# Altium integrated library Analog Devices Data Converters Digital-to-Analog Converters.IntLib: 2231 symbols (part 59 of 181)
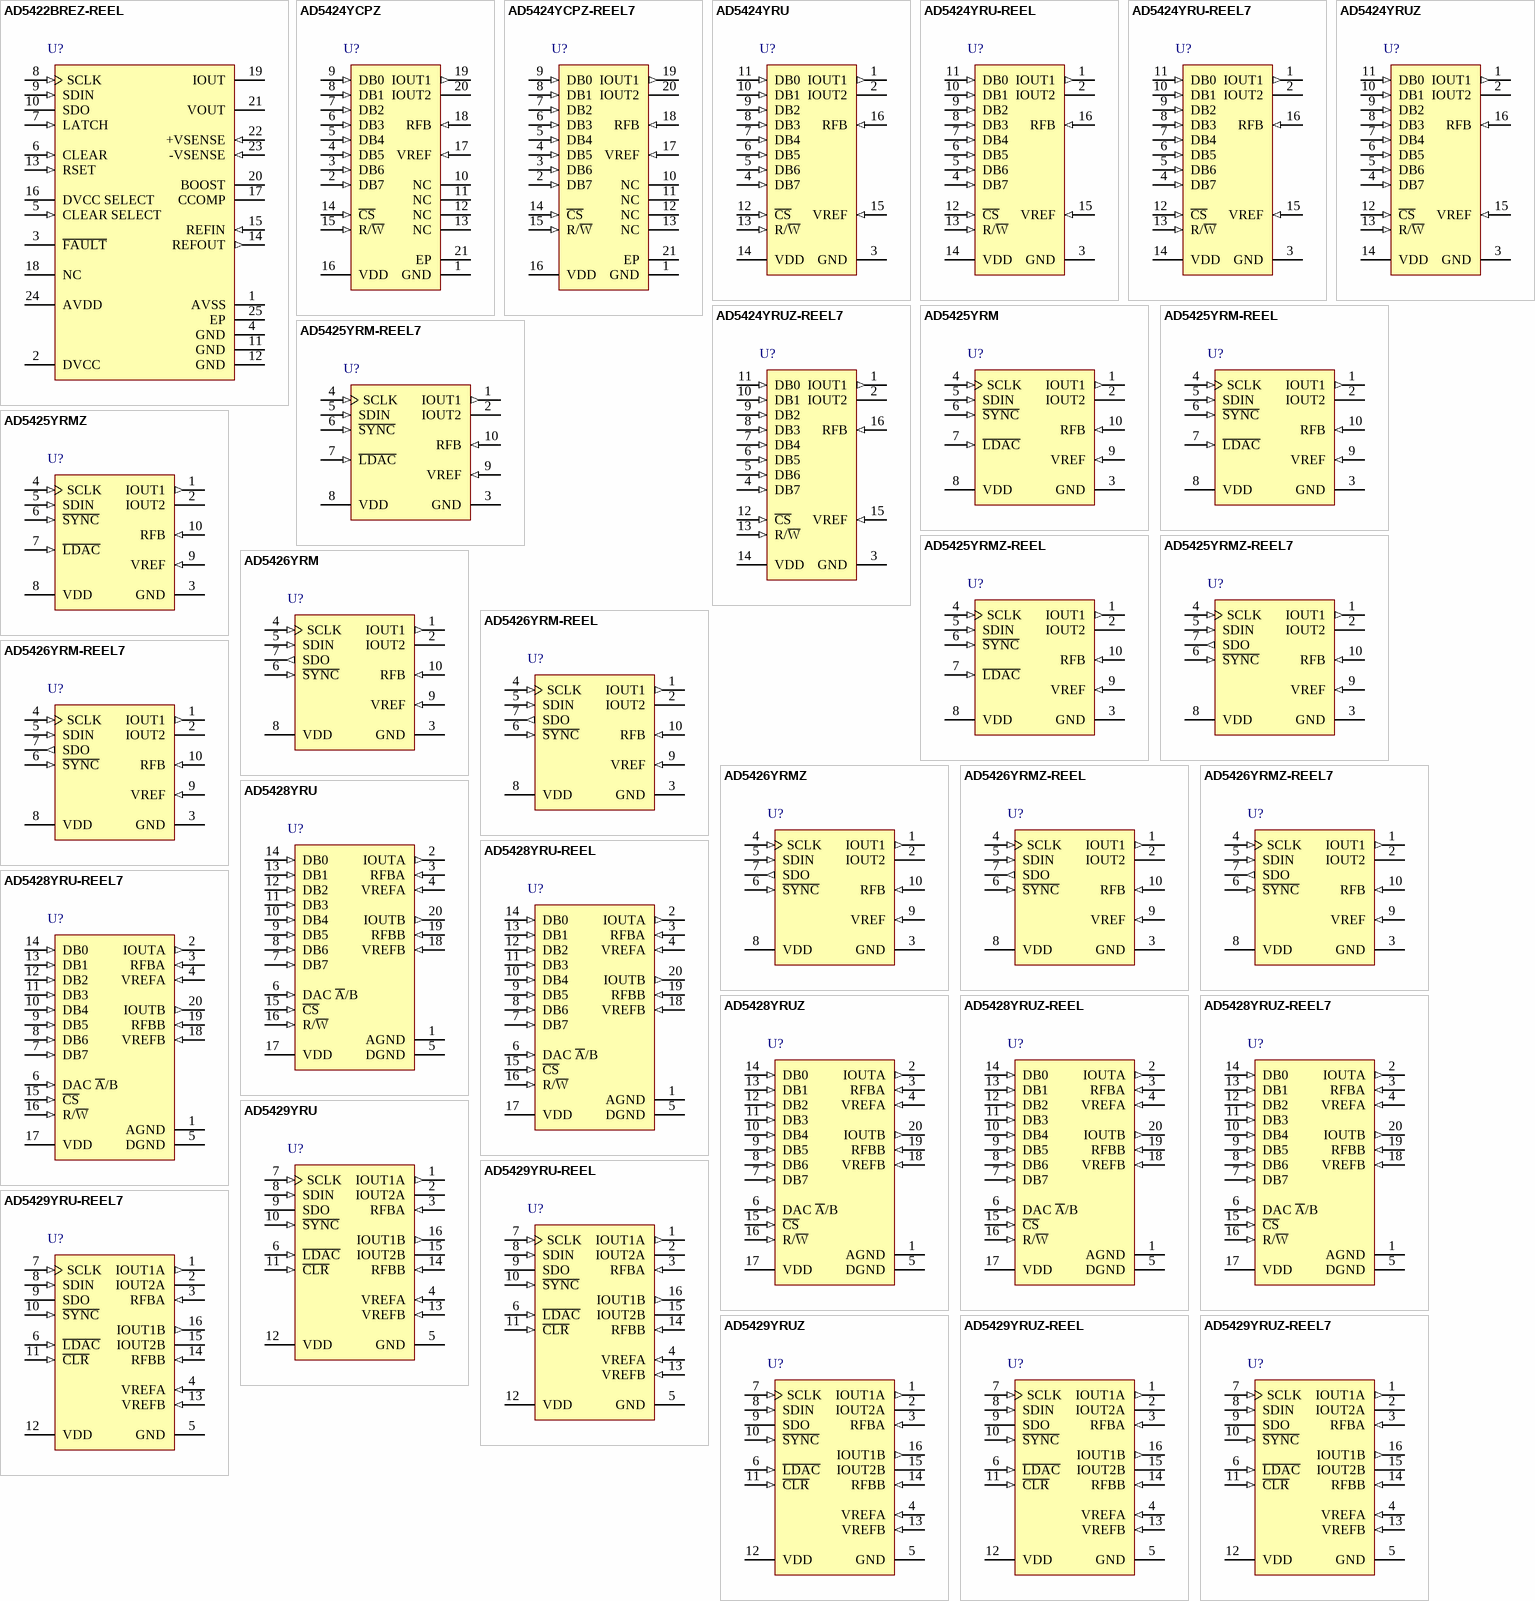
[diagram p172: symbols AD5422BREZ-REEL to AD5429YRUZ-REEL7]

## AD5429YRUZ-REEL7
designator U?
Dual 8-Bit High Bandwidth Multiplying Digital-to-Analog Converter, -40 to +125 degC, RU-16, Pb-Free, Reel; Generic Part Number: AD5429; Manufacturer: Analog Devices; PartNumber: AD5429YRUZ-REEL7; # DAC Outputs: 2; Max V+: 5.5V; Op Pwr Diss: 3.5µW; Resolution (Bits): 8; Settling Time: 30ns; Single Supply: Yes; DatasheetVersion: Rev.D; PackageVersion: Nov-2002; PackageReference: RU-16; PackageDescription: 16-Lead Thin Shrink Small Outline Package [TSSOP]; Supplier 1: Digi-Key; Supplier Part Number 1: AD5429YRUZ-REEL7-ND; Supplier 2: Mouser; Supplier Part Number 2: 584-AD5429YRUZ-R7; Packing: Reel; RoHS: Y; Mounting Technology: Surface Mount; Code_JEDEC: MO-153-AB; ComponentLink1Description: Manufacturer URL; ComponentLink1URL: http://www.analog.com/en/index.html; ComponentLink2Description: Datasheet; ComponentLink2URL: http://www.analog.com/static/imported-files/data_sheets/AD5429_5439_5449.pdf; ComponentLink3Description: Package Specification; ComponentLink3URL: http://www.analog.com/static/imported-files/packages/36244347913743854010197452789RU16.pdf; ComponentLink4Description: Product URL; ComponentLink4URL: http://www.analog.com/en/digital-to-analog-converters/da-converters/ad5429/products/product.html
footprint RU-16_N (TSOP, 16-Leads, Body 5x4.4mm, Pitch 0.65mm, IPC Medium Density)
footprint RU-16_L (TSOP, 16-Leads, Body 5x4.4mm, Pitch 0.65mm, IPC High Density)
footprint RU-16_M (TSOP, 16-Leads, Body 5x4.4mm, Pitch 0.65mm, IPC Low Density)
pins: 1 IOUT1A (out) "DAC A Current Output.", 2 IOUT2A "DAC A Analog Ground. This pin should typically be tied to the analog ground of the system, but it can be biased to achieve single-supply operation.", 3 RFBA (in) "DAC Feedback Resistor Pin. This pin establishes voltage output for the DAC by connecting to an external amplifier output.", 4 VREFA (in) "DAC A Reference Voltage Input Pin.", 5 GND (power) "Ground Pin.", 6 ~{LDAC} (in) "Load DAC Input. This pin allows asynchronous or synchronous updates to the DAC output. The DAC is asynchronously updated when this signal goes low. Alternatively, if this line is held permanently low, an automatic or (See Datasheet)", 7 SCLK (in) "Serial Clock Input. By default, data is clocked into the input shift register on the falling edge of the serial clock input. Alternatively, by means of the serial control bits, the device can be configured such that data is (See Datasheet)", 8 SDIN (in) "Serial Data Input. Data is clocked into the 16-bit input register on the active edge of the serial clock input. By default, data is clocked at power-on into the shift register on the falling edge of SCLK. The control bits (See Datasheet)", 9 SDO (oc) "Serial Data Output. This pin allows a number of parts to be daisy-chained. By default, data is clocked into the shift register on the falling edge and clocked out via SDO on the rising edge of SCLK. Data is always clocked (See Datasheet)", 10 ~{SYNC} (in) "Active Low Control Input. This pin provides the frame synchronization signal for the input data. When S\Y\N\C\ goes low, it powers on the SCLK and DIN buffers, and the input shift register is enabled. Data is loaded into the (See Datasheet)", 11 ~{CLR} (in) "Active Low Control Input. This pin clears the DAC output, input, and DAC registers. Configuration mode allows the user to enable the hardware C\L\R\ pin as a clear-to-zero scale or midscale, as required.", 12 VDD (power) "Positive Power Supply Input. These parts can be operated from a supply of 2.5 V to 5.5 V.", 13 VREFB (in) "DAC B Reference Voltage Input Pin.", 14 RFBB (in) "DAC B Feedback Resistor Pin. This pin establishes voltage output for the DAC by connecting to an external amplifier output.", 15 IOUT2B "DAC B Analog Ground. This pin typically should be tied to the analog ground of the system, but it can be biased to achieve single-supply operation.", 16 IOUT1B (out) "DAC B Current Output."

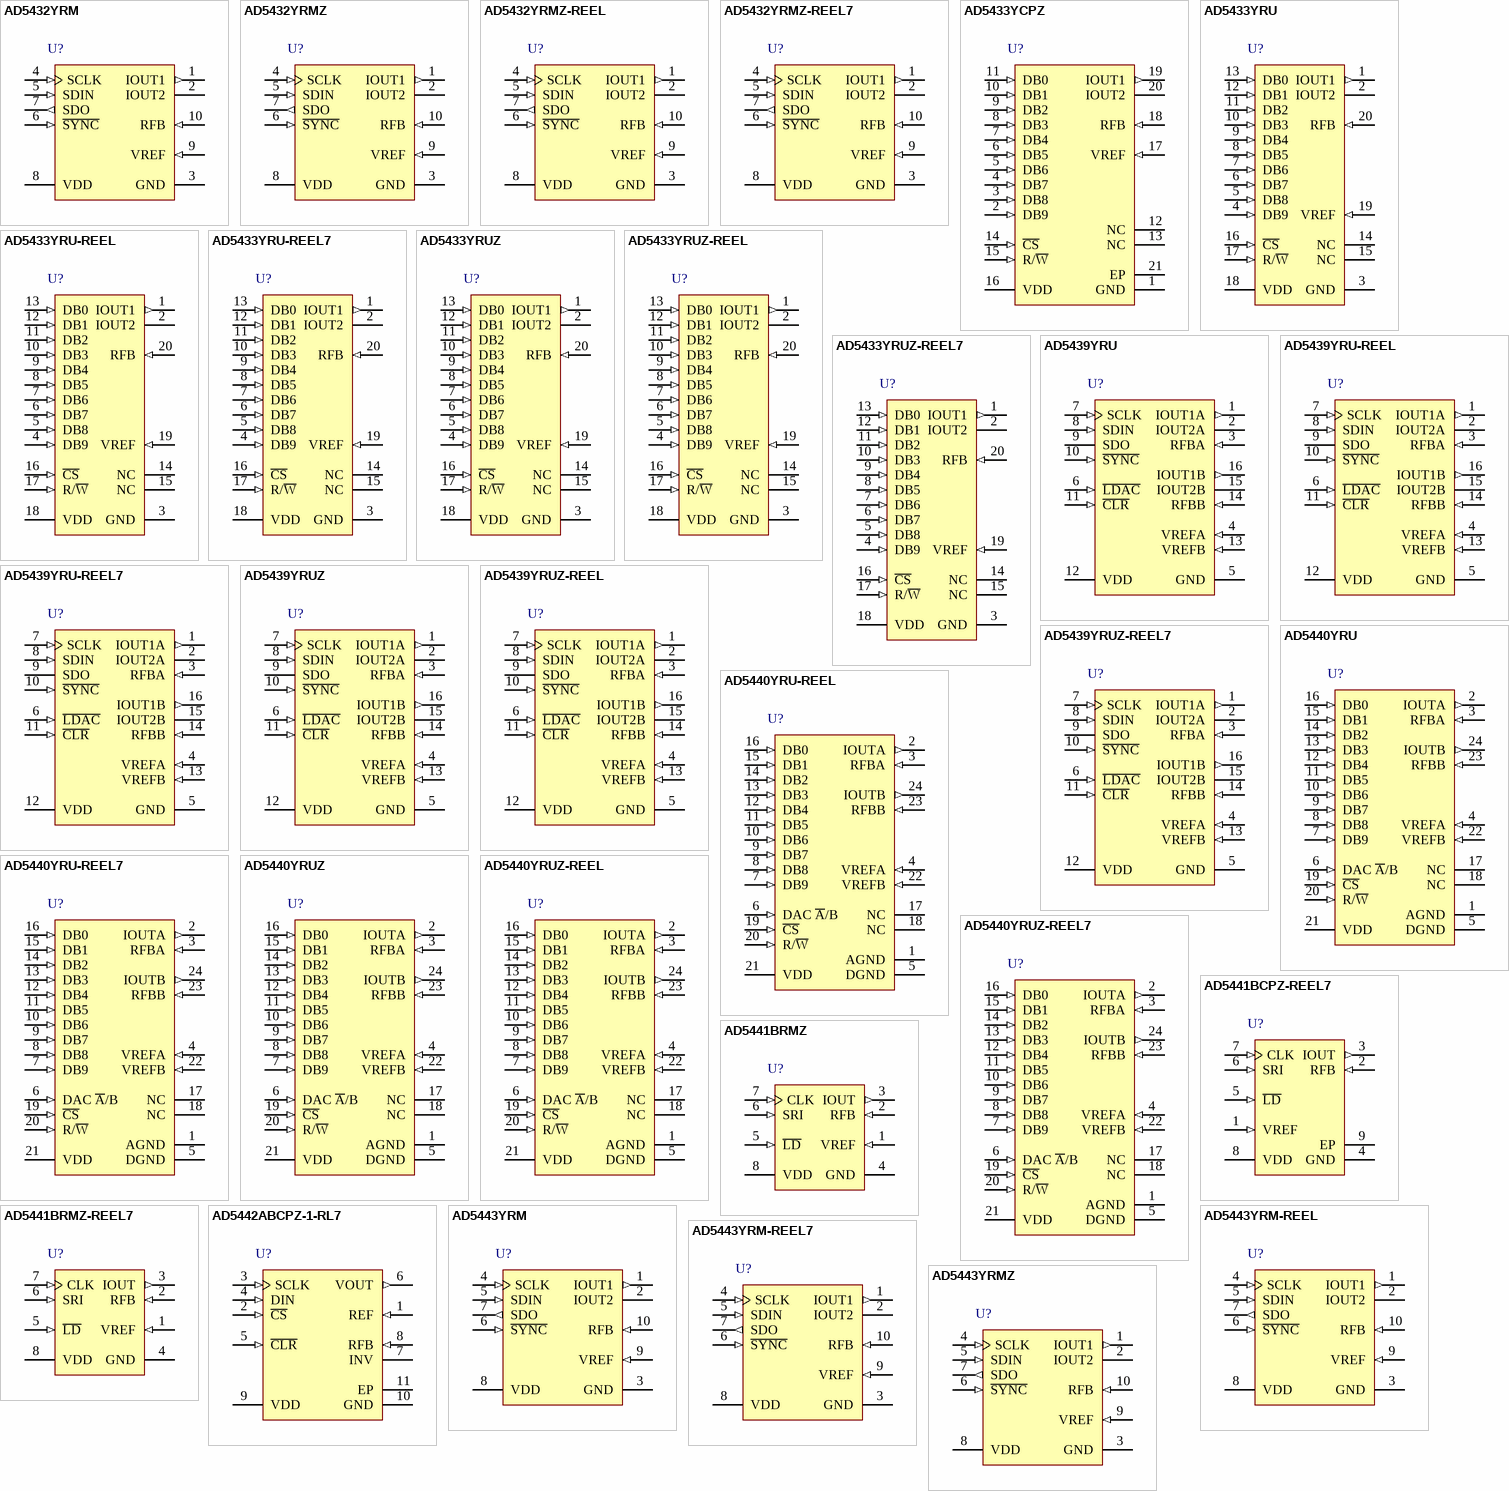
[diagram p32: symbols AD5432YRM to AD5443YRMZ]

## AD5432YRM
designator U?
Single 10-Bit High Bandwidth Multiplying Digital-to-Analog Converter, -40 to +125 degC, RM-10, Tube; Generic Part Number: AD5432; Manufacturer: Analog Devices; PartNumber: AD5432YRM; # DAC Outputs: 1; Max V+: 5.5V; Op Pwr Diss: 25µW; Resolution (Bits): 10; Settling Time: 55ns; Single Supply: Yes; DatasheetVersion: Rev.D; PackageVersion: May-2005; PackageReference: RM-10; PackageDescription: 10-Lead Mini Small Outline Package [MSOP]; Supplier 1: Digi-Key; Supplier Part Number 1: AD5432YRM-ND; Supplier 2: Mouser; Supplier Part Number 2: 584-AD5432YRM; Packing: Tube; RoHS: N; Mounting Technology: Surface Mount; ComponentLink1Description: Manufacturer URL; ComponentLink1URL: http://www.analog.com/en/index.html; ComponentLink2Description: Datasheet; ComponentLink2URL: http://www.analog.com/static/imported-files/data_sheets/AD5426_5432_5443.pdf; ComponentLink3Description: Package Specification; ComponentLink3URL: http://www.analog.com/static/imported-files/packages/PKG_PDF/MSOP%28RM%29/RM_10.pdf; ComponentLink4Description: Product URL; ComponentLink4URL: http://www.analog.com/en/digital-to-analog-converters/da-converters/ad5432/products/product.html; ComponentLink5Description: Reference Design URL; ComponentLink5URL: http://www.analog.com/en/digital-to-analog-converters/da-converters/ad5432/products/product.html#prod_cross_sell
footprint RM-10_N (TSSOP, 10-Leads, Body 3x3mm, Pitch 0.5mm, IPC Medium Density)
footprint RM-10_L (TSSOP, 10-Leads, Body 3x3mm, Pitch 0.5mm, IPC High Density)
footprint RM-10_M (TSSOP, 10-Leads, Body 3x3mm, Pitch 0.5mm, IPC Low Density)
pins: 1 IOUT1 (out) "DAC Current Output.", 2 IOUT2 "DAC Analog Ground. This pin should normally be tied to the analog ground of the system.", 3 GND (power) "Digital Ground Pin.", 4 SCLK (in) "Serial Clock Input. By default, data is clocked into the input shift register on the falling edge of the serial clock input. Alternatively, by means of the serial control bits, the device may be configured such that data is (See Datasheet)", 5 SDIN (in) "Serial Data Input. Data is clocked into the 16-bit input register on the active edge of the serial clock input. By default, on power-up, data is clocked into the shift register on the falling edge of SCLK. The control bits (See Datasheet)", 6 ~{SYNC} (in) "Active Low Control Input. This is the frame synchronization signal for the input data. When S\Y\N\C\ goes low, it powers on the SCLK and DIN buffers, and the input shift register is enabled. Data is loaded to the mode, the (See Datasheet)", 7 SDO (out) "Serial Data Output. This allows a number of parts to be daisy-chained. By default, data is clocked into the shift register on the falling edge and out via SDO on the rising edge of SCLK. Data is always clocked out on the (See Datasheet)", 8 VDD (power) "Positive Power Supply Input. These parts can be operated from a supply of 3 V to 5.5 V.", 9 VREF (in) "DAC Reference Voltage Input.", 10 RFB (in) "DAC Feedback Resistor Pin. Establish voltage output for the DAC by connecting to external amplifier output."

## AD5432YRMZ
designator U?
Single 10-Bit High Bandwidth Multiplying Digital-to-Analog Converter, -40 to +125 degC, RM-10, Pb-Free, Tube; Generic Part Number: AD5432; Manufacturer: Analog Devices; PartNumber: AD5432YRMZ; # DAC Outputs: 1; Max V+: 5.5V; Op Pwr Diss: 25µW; Resolution (Bits): 10; Settling Time: 55ns; Single Supply: Yes; DatasheetVersion: Rev.D; PackageVersion: May-2005; PackageReference: RM-10; PackageDescription: 10-Lead Mini Small Outline Package [MSOP]; Supplier 1: Digi-Key; Supplier Part Number 1: AD5432YRMZ-ND; Supplier 2: Newark; Supplier Part Number 2: 59K4131; Supplier 3: Mouser; Supplier Part Number 3: 584-AD5432YRMZ; Packing: Tube; RoHS: Y; Mounting Technology: Surface Mount; ComponentLink1Description: Manufacturer URL; ComponentLink1URL: http://www.analog.com/en/index.html; ComponentLink2Description: Datasheet; ComponentLink2URL: http://www.analog.com/static/imported-files/data_sheets/AD5426_5432_5443.pdf; ComponentLink3Description: Package Specification; ComponentLink3URL: http://www.analog.com/static/imported-files/packages/PKG_PDF/MSOP%28RM%29/RM_10.pdf; ComponentLink4Description: Product URL; ComponentLink4URL: http://www.analog.com/en/digital-to-analog-converters/da-converters/ad5432/products/product.html; ComponentLink5Description: Reference Design URL; ComponentLink5URL: http://www.analog.com/en/digital-to-analog-converters/da-converters/ad5432/products/product.html#prod_cross_sell
footprint RM-10_N (TSSOP, 10-Leads, Body 3x3mm, Pitch 0.5mm, IPC Medium Density)
footprint RM-10_L (TSSOP, 10-Leads, Body 3x3mm, Pitch 0.5mm, IPC High Density)
footprint RM-10_M (TSSOP, 10-Leads, Body 3x3mm, Pitch 0.5mm, IPC Low Density)
pins: 1 IOUT1 (out) "DAC Current Output.", 2 IOUT2 "DAC Analog Ground. This pin should normally be tied to the analog ground of the system.", 3 GND (power) "Digital Ground Pin.", 4 SCLK (in) "Serial Clock Input. By default, data is clocked into the input shift register on the falling edge of the serial clock input. Alternatively, by means of the serial control bits, the device may be configured such that data is (See Datasheet)", 5 SDIN (in) "Serial Data Input. Data is clocked into the 16-bit input register on the active edge of the serial clock input. By default, on power-up, data is clocked into the shift register on the falling edge of SCLK. The control bits (See Datasheet)", 6 ~{SYNC} (in) "Active Low Control Input. This is the frame synchronization signal for the input data. When S\Y\N\C\ goes low, it powers on the SCLK and DIN buffers, and the input shift register is enabled. Data is loaded to the mode, the (See Datasheet)", 7 SDO (out) "Serial Data Output. This allows a number of parts to be daisy-chained. By default, data is clocked into the shift register on the falling edge and out via SDO on the rising edge of SCLK. Data is always clocked out on the (See Datasheet)", 8 VDD (power) "Positive Power Supply Input. These parts can be operated from a supply of 3 V to 5.5 V.", 9 VREF (in) "DAC Reference Voltage Input.", 10 RFB (in) "DAC Feedback Resistor Pin. Establish voltage output for the DAC by connecting to external amplifier output."

## AD5432YRMZ-REEL
designator U?
Single 10-Bit High Bandwidth Multiplying Digital-to-Analog Converter, -40 to +125 degC, RM-10, Pb-Free, Reel; Generic Part Number: AD5432; Manufacturer: Analog Devices; PartNumber: AD5432YRMZ-REEL; # DAC Outputs: 1; Max V+: 5.5V; Op Pwr Diss: 25µW; Resolution (Bits): 10; Settling Time: 55ns; Single Supply: Yes; DatasheetVersion: Rev.D; PackageVersion: May-2005; PackageReference: RM-10; PackageDescription: 10-Lead Mini Small Outline Package [MSOP]; Supplier 1: Digi-Key; Supplier Part Number 1: AD5432YRMZ-REEL-ND; Supplier 2: Mouser; Supplier Part Number 2: 584-AD5432YRMZ-R; Packing: Reel; RoHS: Y; Mounting Technology: Surface Mount; ComponentLink1Description: Manufacturer URL; ComponentLink1URL: http://www.analog.com/en/index.html; ComponentLink2Description: Datasheet; ComponentLink2URL: http://www.analog.com/static/imported-files/data_sheets/AD5426_5432_5443.pdf; ComponentLink3Description: Package Specification; ComponentLink3URL: http://www.analog.com/static/imported-files/packages/PKG_PDF/MSOP%28RM%29/RM_10.pdf; ComponentLink4Description: Product URL; ComponentLink4URL: http://www.analog.com/en/digital-to-analog-converters/da-converters/ad5432/products/product.html; ComponentLink5Description: Reference Design URL; ComponentLink5URL: http://www.analog.com/en/digital-to-analog-converters/da-converters/ad5432/products/product.html#prod_cross_sell
footprint RM-10_N (TSSOP, 10-Leads, Body 3x3mm, Pitch 0.5mm, IPC Medium Density)
footprint RM-10_L (TSSOP, 10-Leads, Body 3x3mm, Pitch 0.5mm, IPC High Density)
footprint RM-10_M (TSSOP, 10-Leads, Body 3x3mm, Pitch 0.5mm, IPC Low Density)
pins: 1 IOUT1 (out) "DAC Current Output.", 2 IOUT2 "DAC Analog Ground. This pin should normally be tied to the analog ground of the system.", 3 GND (power) "Digital Ground Pin.", 4 SCLK (in) "Serial Clock Input. By default, data is clocked into the input shift register on the falling edge of the serial clock input. Alternatively, by means of the serial control bits, the device may be configured such that data is (See Datasheet)", 5 SDIN (in) "Serial Data Input. Data is clocked into the 16-bit input register on the active edge of the serial clock input. By default, on power-up, data is clocked into the shift register on the falling edge of SCLK. The control bits (See Datasheet)", 6 ~{SYNC} (in) "Active Low Control Input. This is the frame synchronization signal for the input data. When S\Y\N\C\ goes low, it powers on the SCLK and DIN buffers, and the input shift register is enabled. Data is loaded to the mode, the (See Datasheet)", 7 SDO (out) "Serial Data Output. This allows a number of parts to be daisy-chained. By default, data is clocked into the shift register on the falling edge and out via SDO on the rising edge of SCLK. Data is always clocked out on the (See Datasheet)", 8 VDD (power) "Positive Power Supply Input. These parts can be operated from a supply of 3 V to 5.5 V.", 9 VREF (in) "DAC Reference Voltage Input.", 10 RFB (in) "DAC Feedback Resistor Pin. Establish voltage output for the DAC by connecting to external amplifier output."

## AD5432YRMZ-REEL7
designator U?
Single 10-Bit High Bandwidth Multiplying Digital-to-Analog Converter, -40 to +125 degC, RM-10, Pb-Free, Reel; Generic Part Number: AD5432; Manufacturer: Analog Devices; PartNumber: AD5432YRMZ-REEL7; # DAC Outputs: 1; Max V+: 5.5V; Op Pwr Diss: 25µW; Resolution (Bits): 10; Settling Time: 55ns; Single Supply: Yes; DatasheetVersion: Rev.D; PackageVersion: May-2005; PackageReference: RM-10; PackageDescription: 10-Lead Mini Small Outline Package [MSOP]; Supplier 1: Digi-Key; Supplier Part Number 1: AD5432YRMZ-REEL7-ND; Supplier 2: Mouser; Supplier Part Number 2: 584-AD5432YRMZ-R7; Packing: Reel; RoHS: Y; Mounting Technology: Surface Mount; ComponentLink1Description: Manufacturer URL; ComponentLink1URL: http://www.analog.com/en/index.html; ComponentLink2Description: Datasheet; ComponentLink2URL: http://www.analog.com/static/imported-files/data_sheets/AD5426_5432_5443.pdf; ComponentLink3Description: Package Specification; ComponentLink3URL: http://www.analog.com/static/imported-files/packages/PKG_PDF/MSOP%28RM%29/RM_10.pdf; ComponentLink4Description: Product URL; ComponentLink4URL: http://www.analog.com/en/digital-to-analog-converters/da-converters/ad5432/products/product.html; ComponentLink5Description: Reference Design URL; ComponentLink5URL: http://www.analog.com/en/digital-to-analog-converters/da-converters/ad5432/products/product.html#prod_cross_sell
footprint RM-10_N (TSSOP, 10-Leads, Body 3x3mm, Pitch 0.5mm, IPC Medium Density)
footprint RM-10_L (TSSOP, 10-Leads, Body 3x3mm, Pitch 0.5mm, IPC High Density)
footprint RM-10_M (TSSOP, 10-Leads, Body 3x3mm, Pitch 0.5mm, IPC Low Density)
pins: 1 IOUT1 (out) "DAC Current Output.", 2 IOUT2 "DAC Analog Ground. This pin should normally be tied to the analog ground of the system.", 3 GND (power) "Digital Ground Pin.", 4 SCLK (in) "Serial Clock Input. By default, data is clocked into the input shift register on the falling edge of the serial clock input. Alternatively, by means of the serial control bits, the device may be configured such that data is (See Datasheet)", 5 SDIN (in) "Serial Data Input. Data is clocked into the 16-bit input register on the active edge of the serial clock input. By default, on power-up, data is clocked into the shift register on the falling edge of SCLK. The control bits (See Datasheet)", 6 ~{SYNC} (in) "Active Low Control Input. This is the frame synchronization signal for the input data. When S\Y\N\C\ goes low, it powers on the SCLK and DIN buffers, and the input shift register is enabled. Data is loaded to the mode, the (See Datasheet)", 7 SDO (out) "Serial Data Output. This allows a number of parts to be daisy-chained. By default, data is clocked into the shift register on the falling edge and out via SDO on the rising edge of SCLK. Data is always clocked out on the (See Datasheet)", 8 VDD (power) "Positive Power Supply Input. These parts can be operated from a supply of 3 V to 5.5 V.", 9 VREF (in) "DAC Reference Voltage Input.", 10 RFB (in) "DAC Feedback Resistor Pin. Establish voltage output for the DAC by connecting to external amplifier output."

## AD5433YCPZ
designator U?
Single 10-Bit High Bandwidth Multiplying Digital-to-Analog Converter, -40 to +125 degC, CP-20-1, Pb-Free, Tray; Generic Part Number: AD5433; Manufacturer: Analog Devices; PartNumber: AD5433YCPZ; # DAC Outputs: 1; Max V+: 5.5V; Op Pwr Diss: 1.75µW; Resolution (Bits): 10; Settling Time: 35ns; Single Supply: Yes; DatasheetVersion: Rev.C; PackageVersion: 012508-B; PackageReference: CP-20-1; PackageDescription: 20-Lead Lead Frame Chip Scale Package [LFCSP_VQ] 4 x 4 mm Body, Very Thin Quad; Supplier 1: Digi-Key; Supplier Part Number 1: AD5433YCPZ-ND; Supplier 2: Newark; Supplier Part Number 2: 59K4134; Supplier 3: Mouser; Supplier Part Number 3: 584-AD5433YCPZ; Packing: Tray; RoHS: Y; Mounting Technology: Surface Mount; Code_JEDEC: MO-220-VGGD-1; ComponentLink1Description: Manufacturer URL; ComponentLink1URL: http://www.analog.com/en/index.html; ComponentLink2Description: Datasheet; ComponentLink2URL: http://www.analog.com/static/imported-files/data_sheets/AD5424_5433_5445.pdf; ComponentLink3Description: Package Specification; ComponentLink3URL: http://www.analog.com/static/imported-files/packages/PKG_PDF/LFCSP(CP)/CP_20_1.pdf; ComponentLink4Description: Product URL; ComponentLink4URL: http://www.analog.com/en/digital-to-analog-converters/da-converters/ad5433/products/product.html
footprint CP-20-1_N (QFN, 20-Leads, Body 4x4mm, Pitch 0.5mm, Thermal Pad 2.2x2.2mm, IPC Medium Density)
footprint CP-20-1_L (QFN, 20-Leads, Body 4x4mm, Pitch 0.5mm, Thermal Pad 2.2x2.2mm, IPC High Density)
footprint CP-20-1_M (QFN, 20-Leads, Body 4x4mm, Pitch 0.5mm, Thermal Pad 2.2x2.2mm, IPC Low Density)
pins: 1 GND (power) "Ground.", 2 DB9 (in) "Parallel Data Bit 9.", 3 DB8 (in) "Parallel Data Bit 8.", 4 DB7 (in) "Parallel Data Bit 7.", 5 DB6 (in) "Parallel Data Bit 6.", 6 DB5 (in) "Parallel Data Bit 5.", 7 DB4 (in) "Parallel Data Bit 4.", 8 DB3 (in) "Parallel Data Bit 3.", 9 DB2 (in) "Parallel Data Bit 2.", 10 DB1 (in) "Parallel Data Bit 1.", 11 DB0 (in) "Parallel Data Bit 0.", 12 NC "No Internal Connection.", 13 NC "No Internal Connection.", 14 ~{CS} (in) "Chip Select Input. Active low. Used in conjunction with R/W\ to load parallel data to the input latch or to read data from the DAC register. Rising edge of C\S\ loads data.", 15 R/~{W} (in) "Read/Write. When low, use in conjunction with C\S\ to load parallel data. When high, use with C\S\ to read back contents of DAC register.", 16 VDD (power) "Positive Power Supply Input. These parts can be operated from a supply of 2.5 V to 5.5 V.", 17 VREF (in) "DAC Reference Voltage Input Terminal.", 18 RFB (in) "DAC Feedback Resistor Pin. Establish voltage output for the DAC by connecting to external amplifier output.", 19 IOUT1 (out) "DAC Current Output.", 20 IOUT2 "DAC Analog Ground. This pin should normally be tied to the analog ground of the system.", 21 EP (power) "The exposed pad should be connected to ground."

## AD5433YRU
designator U?
Single 10-Bit High Bandwidth Multiplying Digital-to-Analog Converter, -40 to +125 degC, RU-20, Tube; Generic Part Number: AD5433; Manufacturer: Analog Devices; PartNumber: AD5433YRU; # DAC Outputs: 1; Max V+: 5.5V; Op Pwr Diss: 1.75µW; Resolution (Bits): 10; Settling Time: 35ns; Single Supply: Yes; DatasheetVersion: Rev.C; PackageVersion: 2000; PackageReference: RU-20; PackageDescription: 20-Lead Thin Shrink Small Outline Package [TSSOP]; Supplier 1: Digi-Key; Supplier Part Number 1: AD5433YRU-ND; Supplier 2: Farnell; Supplier Part Number 2: 8397058; Supplier 3: Mouser; Supplier Part Number 3: 584-AD5433YRU; Packing: Tube; RoHS: N; Mounting Technology: Surface Mount; Code_JEDEC: MO-153AC; ComponentLink1Description: Manufacturer URL; ComponentLink1URL: http://www.analog.com/en/index.html; ComponentLink2Description: Datasheet; ComponentLink2URL: http://www.analog.com/static/imported-files/data_sheets/AD5424_5433_5445.pdf; ComponentLink3Description: Package Specification; ComponentLink3URL: http://www.analog.com/static/imported-files/packages/364515793657813558433715854054607941441RU20.pdf; ComponentLink4Description: Product URL; ComponentLink4URL: http://www.analog.com/en/digital-to-analog-converters/da-converters/ad5433/products/product.html
footprint RU-20_N (TSOP, 20-Leads, Body 6.5x4.4mm, Pitch 0.65mm, IPC Medium Density)
footprint RU-20_L (TSOP, 20-Leads, Body 6.5x4.4mm, Pitch 0.65mm, IPC High Density)
footprint RU-20_M (TSOP, 20-Leads, Body 6.5x4.4mm, Pitch 0.65mm, IPC Low Density)
pins: 1 IOUT1 (out) "DAC Current Output.", 2 IOUT2 "DAC Analog Ground. This pin should normally be tied to the analog ground of the system.", 3 GND (power) "Ground.", 4 DB9 (in) "Parallel Data Bit 9.", 5 DB8 (in) "Parallel Data Bit 8.", 6 DB7 (in) "Parallel Data Bit 7.", 7 DB6 (in) "Parallel Data Bit 6.", 8 DB5 (in) "Parallel Data Bit 5.", 9 DB4 (in) "Parallel Data Bit 4.", 10 DB3 (in) "Parallel Data Bit 3.", 11 DB2 (in) "Parallel Data Bit 2.", 12 DB1 (in) "Parallel Data Bit 1.", 13 DB0 (in) "Parallel Data Bit 0.", 14 NC "Not Internally Connected.", 15 NC "Not Internally Connected.", 16 ~{CS} (in) "Chip Select Input. Active low. Used in conjunction with R/W\ to load parallel data to the input latch or to read data from the DAC register. Rising edge of C\S\ loads data.", 17 R/~{W} (in) "Read/Write. When low, use in conjunction with C\S\ to load parallel data. When high, use with C\S\ to read back contents of DAC register.", 18 VDD (power) "Positive Power Supply Input. These parts can be operated from a supply of 2.5 V to 5.5 V.", 19 VREF (in) "DAC Reference Voltage Input Terminal.", 20 RFB (in) "DAC Feedback Resistor Pin. Establish voltage output for the DAC by connecting to external amplifier output."

## AD5433YRU-REEL
designator U?
Single 10-Bit High Bandwidth Multiplying Digital-to-Analog Converter, -40 to +125 degC, RU-20, Reel; Generic Part Number: AD5433; Manufacturer: Analog Devices; PartNumber: AD5433YRU-REEL; # DAC Outputs: 1; Max V+: 5.5V; Op Pwr Diss: 1.75µW; Resolution (Bits): 10; Settling Time: 35ns; Single Supply: Yes; DatasheetVersion: Rev.C; PackageVersion: 2000; PackageReference: RU-20; PackageDescription: 20-Lead Thin Shrink Small Outline Package [TSSOP]; Supplier 1: Digi-Key; Supplier Part Number 1: AD5433YRU-REEL-ND; Supplier 2: Mouser; Supplier Part Number 2: 584-AD5433YRU-R; Packing: Reel; RoHS: N; Mounting Technology: Surface Mount; Code_JEDEC: MO-153AC; ComponentLink1Description: Manufacturer URL; ComponentLink1URL: http://www.analog.com/en/index.html; ComponentLink2Description: Datasheet; ComponentLink2URL: http://www.analog.com/static/imported-files/data_sheets/AD5424_5433_5445.pdf; ComponentLink3Description: Package Specification; ComponentLink3URL: http://www.analog.com/static/imported-files/packages/364515793657813558433715854054607941441RU20.pdf; ComponentLink4Description: Product URL; ComponentLink4URL: http://www.analog.com/en/digital-to-analog-converters/da-converters/ad5433/products/product.html
footprint RU-20_N (TSOP, 20-Leads, Body 6.5x4.4mm, Pitch 0.65mm, IPC Medium Density)
footprint RU-20_L (TSOP, 20-Leads, Body 6.5x4.4mm, Pitch 0.65mm, IPC High Density)
footprint RU-20_M (TSOP, 20-Leads, Body 6.5x4.4mm, Pitch 0.65mm, IPC Low Density)
pins: 1 IOUT1 (out) "DAC Current Output.", 2 IOUT2 "DAC Analog Ground. This pin should normally be tied to the analog ground of the system.", 3 GND (power) "Ground.", 4 DB9 (in) "Parallel Data Bit 9.", 5 DB8 (in) "Parallel Data Bit 8.", 6 DB7 (in) "Parallel Data Bit 7.", 7 DB6 (in) "Parallel Data Bit 6.", 8 DB5 (in) "Parallel Data Bit 5.", 9 DB4 (in) "Parallel Data Bit 4.", 10 DB3 (in) "Parallel Data Bit 3.", 11 DB2 (in) "Parallel Data Bit 2.", 12 DB1 (in) "Parallel Data Bit 1.", 13 DB0 (in) "Parallel Data Bit 0.", 14 NC "Not Internally Connected.", 15 NC "Not Internally Connected.", 16 ~{CS} (in) "Chip Select Input. Active low. Used in conjunction with R/W\ to load parallel data to the input latch or to read data from the DAC register. Rising edge of C\S\ loads data.", 17 R/~{W} (in) "Read/Write. When low, use in conjunction with C\S\ to load parallel data. When high, use with C\S\ to read back contents of DAC register.", 18 VDD (power) "Positive Power Supply Input. These parts can be operated from a supply of 2.5 V to 5.5 V.", 19 VREF (in) "DAC Reference Voltage Input Terminal.", 20 RFB (in) "DAC Feedback Resistor Pin. Establish voltage output for the DAC by connecting to external amplifier output."

## AD5433YRU-REEL7
designator U?
Single 10-Bit High Bandwidth Multiplying Digital-to-Analog Converter, -40 to +125 degC, RU-20, Reel; Generic Part Number: AD5433; Manufacturer: Analog Devices; PartNumber: AD5433YRU-REEL7; # DAC Outputs: 1; Max V+: 5.5V; Op Pwr Diss: 1.75µW; Resolution (Bits): 10; Settling Time: 35ns; Single Supply: Yes; DatasheetVersion: Rev.C; PackageVersion: 2000; PackageReference: RU-20; PackageDescription: 20-Lead Thin Shrink Small Outline Package [TSSOP]; Supplier 1: Mouser; Supplier Part Number 1: N/A; Packing: Reel; RoHS: N; Mounting Technology: Surface Mount; Code_JEDEC: MO-153AC; ComponentLink1Description: Manufacturer URL; ComponentLink1URL: http://www.analog.com/en/index.html; ComponentLink2Description: Datasheet; ComponentLink2URL: http://www.analog.com/static/imported-files/data_sheets/AD5424_5433_5445.pdf; ComponentLink3Description: Package Specification; ComponentLink3URL: http://www.analog.com/static/imported-files/packages/364515793657813558433715854054607941441RU20.pdf; ComponentLink4Description: Product URL; ComponentLink4URL: http://www.analog.com/en/digital-to-analog-converters/da-converters/ad5433/products/product.html
footprint RU-20_N (TSOP, 20-Leads, Body 6.5x4.4mm, Pitch 0.65mm, IPC Medium Density)
footprint RU-20_L (TSOP, 20-Leads, Body 6.5x4.4mm, Pitch 0.65mm, IPC High Density)
footprint RU-20_M (TSOP, 20-Leads, Body 6.5x4.4mm, Pitch 0.65mm, IPC Low Density)
pins: 1 IOUT1 (out) "DAC Current Output.", 2 IOUT2 "DAC Analog Ground. This pin should normally be tied to the analog ground of the system.", 3 GND (power) "Ground.", 4 DB9 (in) "Parallel Data Bit 9.", 5 DB8 (in) "Parallel Data Bit 8.", 6 DB7 (in) "Parallel Data Bit 7.", 7 DB6 (in) "Parallel Data Bit 6.", 8 DB5 (in) "Parallel Data Bit 5.", 9 DB4 (in) "Parallel Data Bit 4.", 10 DB3 (in) "Parallel Data Bit 3.", 11 DB2 (in) "Parallel Data Bit 2.", 12 DB1 (in) "Parallel Data Bit 1.", 13 DB0 (in) "Parallel Data Bit 0.", 14 NC "Not Internally Connected.", 15 NC "Not Internally Connected.", 16 ~{CS} (in) "Chip Select Input. Active low. Used in conjunction with R/W\ to load parallel data to the input latch or to read data from the DAC register. Rising edge of C\S\ loads data.", 17 R/~{W} (in) "Read/Write. When low, use in conjunction with C\S\ to load parallel data. When high, use with C\S\ to read back contents of DAC register.", 18 VDD (power) "Positive Power Supply Input. These parts can be operated from a supply of 2.5 V to 5.5 V.", 19 VREF (in) "DAC Reference Voltage Input Terminal.", 20 RFB (in) "DAC Feedback Resistor Pin. Establish voltage output for the DAC by connecting to external amplifier output."

## AD5433YRUZ
designator U?
Single 10-Bit High Bandwidth Multiplying Digital-to-Analog Converter, -40 to +125 degC, RU-20, Pb-Free, Tube; Generic Part Number: AD5433; Manufacturer: Analog Devices; PartNumber: AD5433YRUZ; # DAC Outputs: 1; Max V+: 5.5V; Op Pwr Diss: 1.75µW; Resolution (Bits): 10; Settling Time: 35ns; Single Supply: Yes; DatasheetVersion: Rev.C; PackageVersion: 2000; PackageReference: RU-20; PackageDescription: 20-Lead Thin Shrink Small Outline Package [TSSOP]; Supplier 1: Digi-Key; Supplier Part Number 1: AD5433YRUZ-ND; Supplier 2: Farnell; Supplier Part Number 2: 1581920; Supplier 3: Newark; Supplier Part Number 3: 59K4135; Supplier 4: Mouser; Supplier Part Number 4: 584-AD5433YRUZ; Packing: Tube; RoHS: Y; Mounting Technology: Surface Mount; Code_JEDEC: MO-153AC; ComponentLink1Description: Manufacturer URL; ComponentLink1URL: http://www.analog.com/en/index.html; ComponentLink2Description: Datasheet; ComponentLink2URL: http://www.analog.com/static/imported-files/data_sheets/AD5424_5433_5445.pdf; ComponentLink3Description: Package Specification; ComponentLink3URL: http://www.analog.com/static/imported-files/packages/364515793657813558433715854054607941441RU20.pdf; ComponentLink4Description: Product URL; ComponentLink4URL: http://www.analog.com/en/digital-to-analog-converters/da-converters/ad5433/products/product.html
footprint RU-20_N (TSOP, 20-Leads, Body 6.5x4.4mm, Pitch 0.65mm, IPC Medium Density)
footprint RU-20_L (TSOP, 20-Leads, Body 6.5x4.4mm, Pitch 0.65mm, IPC High Density)
footprint RU-20_M (TSOP, 20-Leads, Body 6.5x4.4mm, Pitch 0.65mm, IPC Low Density)
pins: 1 IOUT1 (out) "DAC Current Output.", 2 IOUT2 "DAC Analog Ground. This pin should normally be tied to the analog ground of the system.", 3 GND (power) "Ground.", 4 DB9 (in) "Parallel Data Bit 9.", 5 DB8 (in) "Parallel Data Bit 8.", 6 DB7 (in) "Parallel Data Bit 7.", 7 DB6 (in) "Parallel Data Bit 6.", 8 DB5 (in) "Parallel Data Bit 5.", 9 DB4 (in) "Parallel Data Bit 4.", 10 DB3 (in) "Parallel Data Bit 3.", 11 DB2 (in) "Parallel Data Bit 2.", 12 DB1 (in) "Parallel Data Bit 1.", 13 DB0 (in) "Parallel Data Bit 0.", 14 NC "Not Internally Connected.", 15 NC "Not Internally Connected.", 16 ~{CS} (in) "Chip Select Input. Active low. Used in conjunction with R/W\ to load parallel data to the input latch or to read data from the DAC register. Rising edge of C\S\ loads data.", 17 R/~{W} (in) "Read/Write. When low, use in conjunction with C\S\ to load parallel data. When high, use with C\S\ to read back contents of DAC register.", 18 VDD (power) "Positive Power Supply Input. These parts can be operated from a supply of 2.5 V to 5.5 V.", 19 VREF (in) "DAC Reference Voltage Input Terminal.", 20 RFB (in) "DAC Feedback Resistor Pin. Establish voltage output for the DAC by connecting to external amplifier output."

## AD5433YRUZ-REEL
designator U?
Single 10-Bit High Bandwidth Multiplying Digital-to-Analog Converter, -40 to +125 degC, RU-20, Pb-Free, Reel; Generic Part Number: AD5433; Manufacturer: Analog Devices; PartNumber: AD5433YRUZ-REEL; # DAC Outputs: 1; Max V+: 5.5V; Op Pwr Diss: 1.75µW; Resolution (Bits): 10; Settling Time: 35ns; Single Supply: Yes; DatasheetVersion: Rev.C; PackageVersion: 2000; PackageReference: RU-20; PackageDescription: 20-Lead Thin Shrink Small Outline Package [TSSOP]; Supplier 1: Digi-Key; Supplier Part Number 1: AD5433YRUZ-REEL-ND; Supplier 2: Mouser; Supplier Part Number 2: 584-AD5433YRUZ-R; Packing: Reel; RoHS: Y; Mounting Technology: Surface Mount; Code_JEDEC: MO-153AC; ComponentLink1Description: Manufacturer URL; ComponentLink1URL: http://www.analog.com/en/index.html; ComponentLink2Description: Datasheet; ComponentLink2URL: http://www.analog.com/static/imported-files/data_sheets/AD5424_5433_5445.pdf; ComponentLink3Description: Package Specification; ComponentLink3URL: http://www.analog.com/static/imported-files/packages/364515793657813558433715854054607941441RU20.pdf; ComponentLink4Description: Product URL; ComponentLink4URL: http://www.analog.com/en/digital-to-analog-converters/da-converters/ad5433/products/product.html
footprint RU-20_N (TSOP, 20-Leads, Body 6.5x4.4mm, Pitch 0.65mm, IPC Medium Density)
footprint RU-20_L (TSOP, 20-Leads, Body 6.5x4.4mm, Pitch 0.65mm, IPC High Density)
footprint RU-20_M (TSOP, 20-Leads, Body 6.5x4.4mm, Pitch 0.65mm, IPC Low Density)
pins: 1 IOUT1 (out) "DAC Current Output.", 2 IOUT2 "DAC Analog Ground. This pin should normally be tied to the analog ground of the system.", 3 GND (power) "Ground.", 4 DB9 (in) "Parallel Data Bit 9.", 5 DB8 (in) "Parallel Data Bit 8.", 6 DB7 (in) "Parallel Data Bit 7.", 7 DB6 (in) "Parallel Data Bit 6.", 8 DB5 (in) "Parallel Data Bit 5.", 9 DB4 (in) "Parallel Data Bit 4.", 10 DB3 (in) "Parallel Data Bit 3.", 11 DB2 (in) "Parallel Data Bit 2.", 12 DB1 (in) "Parallel Data Bit 1.", 13 DB0 (in) "Parallel Data Bit 0.", 14 NC "Not Internally Connected.", 15 NC "Not Internally Connected.", 16 ~{CS} (in) "Chip Select Input. Active low. Used in conjunction with R/W\ to load parallel data to the input latch or to read data from the DAC register. Rising edge of C\S\ loads data.", 17 R/~{W} (in) "Read/Write. When low, use in conjunction with C\S\ to load parallel data. When high, use with C\S\ to read back contents of DAC register.", 18 VDD (power) "Positive Power Supply Input. These parts can be operated from a supply of 2.5 V to 5.5 V.", 19 VREF (in) "DAC Reference Voltage Input Terminal.", 20 RFB (in) "DAC Feedback Resistor Pin. Establish voltage output for the DAC by connecting to external amplifier output."

## AD5433YRUZ-REEL7
designator U?
Single 10-Bit High Bandwidth Multiplying Digital-to-Analog Converter, -40 to +125 degC, RU-20, Pb-Free, Reel; Generic Part Number: AD5433; Manufacturer: Analog Devices; PartNumber: AD5433YRUZ-REEL7; # DAC Outputs: 1; Max V+: 5.5V; Op Pwr Diss: 1.75µW; Resolution (Bits): 10; Settling Time: 35ns; Single Supply: Yes; DatasheetVersion: Rev.C; PackageVersion: 2000; PackageReference: RU-20; PackageDescription: 20-Lead Thin Shrink Small Outline Package [TSSOP]; Supplier 1: Digi-Key; Supplier Part Number 1: AD5433YRUZ-REEL7-ND; Supplier 2: Mouser; Supplier Part Number 2: 584-AD5433YRUZ-R7; Packing: Reel; RoHS: Y; Mounting Technology: Surface Mount; Code_JEDEC: MO-153AC; ComponentLink1Description: Manufacturer URL; ComponentLink1URL: http://www.analog.com/en/index.html; ComponentLink2Description: Datasheet; ComponentLink2URL: http://www.analog.com/static/imported-files/data_sheets/AD5424_5433_5445.pdf; ComponentLink3Description: Package Specification; ComponentLink3URL: http://www.analog.com/static/imported-files/packages/364515793657813558433715854054607941441RU20.pdf; ComponentLink4Description: Product URL; ComponentLink4URL: http://www.analog.com/en/digital-to-analog-converters/da-converters/ad5433/products/product.html
footprint RU-20_N (TSOP, 20-Leads, Body 6.5x4.4mm, Pitch 0.65mm, IPC Medium Density)
footprint RU-20_L (TSOP, 20-Leads, Body 6.5x4.4mm, Pitch 0.65mm, IPC High Density)
footprint RU-20_M (TSOP, 20-Leads, Body 6.5x4.4mm, Pitch 0.65mm, IPC Low Density)
pins: 1 IOUT1 (out) "DAC Current Output.", 2 IOUT2 "DAC Analog Ground. This pin should normally be tied to the analog ground of the system.", 3 GND (power) "Ground.", 4 DB9 (in) "Parallel Data Bit 9.", 5 DB8 (in) "Parallel Data Bit 8.", 6 DB7 (in) "Parallel Data Bit 7.", 7 DB6 (in) "Parallel Data Bit 6.", 8 DB5 (in) "Parallel Data Bit 5.", 9 DB4 (in) "Parallel Data Bit 4.", 10 DB3 (in) "Parallel Data Bit 3.", 11 DB2 (in) "Parallel Data Bit 2.", 12 DB1 (in) "Parallel Data Bit 1.", 13 DB0 (in) "Parallel Data Bit 0.", 14 NC "Not Internally Connected.", 15 NC "Not Internally Connected.", 16 ~{CS} (in) "Chip Select Input. Active low. Used in conjunction with R/W\ to load parallel data to the input latch or to read data from the DAC register. Rising edge of C\S\ loads data.", 17 R/~{W} (in) "Read/Write. When low, use in conjunction with C\S\ to load parallel data. When high, use with C\S\ to read back contents of DAC register.", 18 VDD (power) "Positive Power Supply Input. These parts can be operated from a supply of 2.5 V to 5.5 V.", 19 VREF (in) "DAC Reference Voltage Input Terminal.", 20 RFB (in) "DAC Feedback Resistor Pin. Establish voltage output for the DAC by connecting to external amplifier output."

## AD5439YRU
designator U?
Dual 10-Bit High Bandwidth Multiplying Digital-to-Analog Converter, -40 to +125 degC, RU-16, Tube; Generic Part Number: AD5439; Manufacturer: Analog Devices; PartNumber: AD5439YRU; # DAC Outputs: 2; Max V+: 5.5V; Op Pwr Diss: 3.5µW; Resolution (Bits): 10; Settling Time: 35ns; Single Supply: Yes; DatasheetVersion: Rev.D; PackageVersion: Nov-2002; PackageReference: RU-16; PackageDescription: 16-Lead Thin Shrink Small Outline Package [TSSOP]; Supplier 1: Digi-Key; Supplier Part Number 1: AD5439YRU-ND; Supplier 2: Mouser; Supplier Part Number 2: 584-AD5439YRU; Packing: Tube; RoHS: N; Mounting Technology: Surface Mount; Code_JEDEC: MO-153-AB; ComponentLink1Description: Manufacturer URL; ComponentLink1URL: http://www.analog.com/en/index.html; ComponentLink2Description: Datasheet; ComponentLink2URL: http://www.analog.com/static/imported-files/data_sheets/AD5429_5439_5449.pdf; ComponentLink3Description: Package Specification; ComponentLink3URL: http://www.analog.com/static/imported-files/packages/36244347913743854010197452789RU16.pdf; ComponentLink4Description: Product URL; ComponentLink4URL: http://www.analog.com/en/digital-to-analog-converters/da-converters/ad5439/products/product.html
footprint RU-16_N (TSOP, 16-Leads, Body 5x4.4mm, Pitch 0.65mm, IPC Medium Density)
footprint RU-16_L (TSOP, 16-Leads, Body 5x4.4mm, Pitch 0.65mm, IPC High Density)
footprint RU-16_M (TSOP, 16-Leads, Body 5x4.4mm, Pitch 0.65mm, IPC Low Density)
pins: 1 IOUT1A (out) "DAC A Current Output.", 2 IOUT2A "DAC A Analog Ground. This pin should typically be tied to the analog ground of the system, but it can be biased to achieve single-supply operation.", 3 RFBA (in) "DAC Feedback Resistor Pin. This pin establishes voltage output for the DAC by connecting to an external amplifier output.", 4 VREFA (in) "DAC A Reference Voltage Input Pin.", 5 GND (power) "Ground Pin.", 6 ~{LDAC} (in) "Load DAC Input. This pin allows asynchronous or synchronous updates to the DAC output. The DAC is asynchronously updated when this signal goes low. Alternatively, if this line is held permanently low, an automatic or (See Datasheet)", 7 SCLK (in) "Serial Clock Input. By default, data is clocked into the input shift register on the falling edge of the serial clock input. Alternatively, by means of the serial control bits, the device can be configured such that data is (See Datasheet)", 8 SDIN (in) "Serial Data Input. Data is clocked into the 16-bit input register on the active edge of the serial clock input. By default, data is clocked at power-on into the shift register on the falling edge of SCLK. The control bits (See Datasheet)", 9 SDO (oc) "Serial Data Output. This pin allows a number of parts to be daisy-chained. By default, data is clocked into the shift register on the falling edge and clocked out via SDO on the rising edge of SCLK. Data is always clocked (See Datasheet)", 10 ~{SYNC} (in) "Active Low Control Input. This pin provides the frame synchronization signal for the input data. When S\Y\N\C\ goes low, it powers on the SCLK and DIN buffers, and the input shift register is enabled. Data is loaded into the (See Datasheet)", 11 ~{CLR} (in) "Active Low Control Input. This pin clears the DAC output, input, and DAC registers. Configuration mode allows the user to enable the hardware C\L\R\ pin as a clear-to-zero scale or midscale, as required.", 12 VDD (power) "Positive Power Supply Input. These parts can be operated from a supply of 2.5 V to 5.5 V.", 13 VREFB (in) "DAC B Reference Voltage Input Pin.", 14 RFBB (in) "DAC B Feedback Resistor Pin. This pin establishes voltage output for the DAC by connecting to an external amplifier output.", 15 IOUT2B "DAC B Analog Ground. This pin typically should be tied to the analog ground of the system, but it can be biased to achieve single-supply operation.", 16 IOUT1B (out) "DAC B Current Output."

## AD5439YRU-REEL
designator U?
Dual 10-Bit High Bandwidth Multiplying Digital-to-Analog Converter, -40 to +125 degC, RU-16, Reel; Generic Part Number: AD5439; Manufacturer: Analog Devices; PartNumber: AD5439YRU-REEL; # DAC Outputs: 2; Max V+: 5.5V; Op Pwr Diss: 3.5µW; Resolution (Bits): 10; Settling Time: 35ns; Single Supply: Yes; DatasheetVersion: Rev.D; PackageVersion: Nov-2002; PackageReference: RU-16; PackageDescription: 16-Lead Thin Shrink Small Outline Package [TSSOP]; Supplier 1: Mouser; Supplier Part Number 1: N/A; Packing: Reel; RoHS: N; Mounting Technology: Surface Mount; Code_JEDEC: MO-153-AB; ComponentLink1Description: Manufacturer URL; ComponentLink1URL: http://www.analog.com/en/index.html; ComponentLink2Description: Datasheet; ComponentLink2URL: http://www.analog.com/static/imported-files/data_sheets/AD5429_5439_5449.pdf; ComponentLink3Description: Package Specification; ComponentLink3URL: http://www.analog.com/static/imported-files/packages/36244347913743854010197452789RU16.pdf; ComponentLink4Description: Product URL; ComponentLink4URL: http://www.analog.com/en/digital-to-analog-converters/da-converters/ad5439/products/product.html
footprint RU-16_N (TSOP, 16-Leads, Body 5x4.4mm, Pitch 0.65mm, IPC Medium Density)
footprint RU-16_L (TSOP, 16-Leads, Body 5x4.4mm, Pitch 0.65mm, IPC High Density)
footprint RU-16_M (TSOP, 16-Leads, Body 5x4.4mm, Pitch 0.65mm, IPC Low Density)
pins: 1 IOUT1A (out) "DAC A Current Output.", 2 IOUT2A "DAC A Analog Ground. This pin should typically be tied to the analog ground of the system, but it can be biased to achieve single-supply operation.", 3 RFBA (in) "DAC Feedback Resistor Pin. This pin establishes voltage output for the DAC by connecting to an external amplifier output.", 4 VREFA (in) "DAC A Reference Voltage Input Pin.", 5 GND (power) "Ground Pin.", 6 ~{LDAC} (in) "Load DAC Input. This pin allows asynchronous or synchronous updates to the DAC output. The DAC is asynchronously updated when this signal goes low. Alternatively, if this line is held permanently low, an automatic or (See Datasheet)", 7 SCLK (in) "Serial Clock Input. By default, data is clocked into the input shift register on the falling edge of the serial clock input. Alternatively, by means of the serial control bits, the device can be configured such that data is (See Datasheet)", 8 SDIN (in) "Serial Data Input. Data is clocked into the 16-bit input register on the active edge of the serial clock input. By default, data is clocked at power-on into the shift register on the falling edge of SCLK. The control bits (See Datasheet)", 9 SDO (oc) "Serial Data Output. This pin allows a number of parts to be daisy-chained. By default, data is clocked into the shift register on the falling edge and clocked out via SDO on the rising edge of SCLK. Data is always clocked (See Datasheet)", 10 ~{SYNC} (in) "Active Low Control Input. This pin provides the frame synchronization signal for the input data. When S\Y\N\C\ goes low, it powers on the SCLK and DIN buffers, and the input shift register is enabled. Data is loaded into the (See Datasheet)", 11 ~{CLR} (in) "Active Low Control Input. This pin clears the DAC output, input, and DAC registers. Configuration mode allows the user to enable the hardware C\L\R\ pin as a clear-to-zero scale or midscale, as required.", 12 VDD (power) "Positive Power Supply Input. These parts can be operated from a supply of 2.5 V to 5.5 V.", 13 VREFB (in) "DAC B Reference Voltage Input Pin.", 14 RFBB (in) "DAC B Feedback Resistor Pin. This pin establishes voltage output for the DAC by connecting to an external amplifier output.", 15 IOUT2B "DAC B Analog Ground. This pin typically should be tied to the analog ground of the system, but it can be biased to achieve single-supply operation.", 16 IOUT1B (out) "DAC B Current Output."

## AD5439YRU-REEL7
designator U?
Dual 10-Bit High Bandwidth Multiplying Digital-to-Analog Converter, -40 to +125 degC, RU-16, Reel; Generic Part Number: AD5439; Manufacturer: Analog Devices; PartNumber: AD5439YRU-REEL7; # DAC Outputs: 2; Max V+: 5.5V; Op Pwr Diss: 3.5µW; Resolution (Bits): 10; Settling Time: 35ns; Single Supply: Yes; DatasheetVersion: Rev.D; PackageVersion: Nov-2002; PackageReference: RU-16; PackageDescription: 16-Lead Thin Shrink Small Outline Package [TSSOP]; Supplier 1: Mouser; Supplier Part Number 1: N/A; Packing: Reel; RoHS: N; Mounting Technology: Surface Mount; Code_JEDEC: MO-153-AB; ComponentLink1Description: Manufacturer URL; ComponentLink1URL: http://www.analog.com/en/index.html; ComponentLink2Description: Datasheet; ComponentLink2URL: http://www.analog.com/static/imported-files/data_sheets/AD5429_5439_5449.pdf; ComponentLink3Description: Package Specification; ComponentLink3URL: http://www.analog.com/static/imported-files/packages/36244347913743854010197452789RU16.pdf; ComponentLink4Description: Product URL; ComponentLink4URL: http://www.analog.com/en/digital-to-analog-converters/da-converters/ad5439/products/product.html
footprint RU-16_N (TSOP, 16-Leads, Body 5x4.4mm, Pitch 0.65mm, IPC Medium Density)
footprint RU-16_L (TSOP, 16-Leads, Body 5x4.4mm, Pitch 0.65mm, IPC High Density)
footprint RU-16_M (TSOP, 16-Leads, Body 5x4.4mm, Pitch 0.65mm, IPC Low Density)
pins: 1 IOUT1A (out) "DAC A Current Output.", 2 IOUT2A "DAC A Analog Ground. This pin should typically be tied to the analog ground of the system, but it can be biased to achieve single-supply operation.", 3 RFBA (in) "DAC Feedback Resistor Pin. This pin establishes voltage output for the DAC by connecting to an external amplifier output.", 4 VREFA (in) "DAC A Reference Voltage Input Pin.", 5 GND (power) "Ground Pin.", 6 ~{LDAC} (in) "Load DAC Input. This pin allows asynchronous or synchronous updates to the DAC output. The DAC is asynchronously updated when this signal goes low. Alternatively, if this line is held permanently low, an automatic or (See Datasheet)", 7 SCLK (in) "Serial Clock Input. By default, data is clocked into the input shift register on the falling edge of the serial clock input. Alternatively, by means of the serial control bits, the device can be configured such that data is (See Datasheet)", 8 SDIN (in) "Serial Data Input. Data is clocked into the 16-bit input register on the active edge of the serial clock input. By default, data is clocked at power-on into the shift register on the falling edge of SCLK. The control bits (See Datasheet)", 9 SDO (oc) "Serial Data Output. This pin allows a number of parts to be daisy-chained. By default, data is clocked into the shift register on the falling edge and clocked out via SDO on the rising edge of SCLK. Data is always clocked (See Datasheet)", 10 ~{SYNC} (in) "Active Low Control Input. This pin provides the frame synchronization signal for the input data. When S\Y\N\C\ goes low, it powers on the SCLK and DIN buffers, and the input shift register is enabled. Data is loaded into the (See Datasheet)", 11 ~{CLR} (in) "Active Low Control Input. This pin clears the DAC output, input, and DAC registers. Configuration mode allows the user to enable the hardware C\L\R\ pin as a clear-to-zero scale or midscale, as required.", 12 VDD (power) "Positive Power Supply Input. These parts can be operated from a supply of 2.5 V to 5.5 V.", 13 VREFB (in) "DAC B Reference Voltage Input Pin.", 14 RFBB (in) "DAC B Feedback Resistor Pin. This pin establishes voltage output for the DAC by connecting to an external amplifier output.", 15 IOUT2B "DAC B Analog Ground. This pin typically should be tied to the analog ground of the system, but it can be biased to achieve single-supply operation.", 16 IOUT1B (out) "DAC B Current Output."